# EAGLE library part SLG46580V (library GREENPAK)
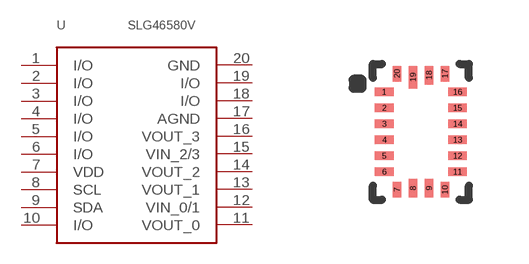
[diagram p36: symbol with the pads of STQFN-20-2X3; footprint STQFN-20-2X3]

Designator prefix -

## SLG46580V  [STQFN-20-2X3]
1  I/O
2  I/O
3  I/O
4  I/O
5  I/O
6  I/O
7  VDD  pwr
8  SCL
9  SDA
10  I/O
11  VOUT_0  pwr
12  VIN_0/1  pwr
13  VOUT_1  pwr
14  VOUT_2  pwr
15  VIN_2/3  pwr
16  VOUT_3  pwr
17  AGND  pwr
18  I/O
19  I/O
20  GND  pwr

## Footprint STQFN-20-2X3 (pad centres in mm)
smd 0.465 x 0.21: 1 -0.917,1; 2 -0.917,0.6; 3 -0.917,0.2; 4 -0.917,-0.2; 5 -0.917,-0.6; 6 -0.917,-1; 11 0.917,-1; 12 0.917,-0.6; 13 0.917,-0.2; 14 0.917,0.2; 15 0.917,0.6; 16 0.917,1
smd 0.21 x 0.39: 7 -0.6,-1.454; 10 0.6,-1.454; 17 0.6,1.454; 20 -0.6,1.454
smd 0.21 x 0.465: 8 -0.2,-1.417; 9 0.2,-1.417; 18 0.2,1.418
smd 0.21 x 0.565: 19 -0.2,1.366